# EAGLE library part STPM34 (library stpm34)
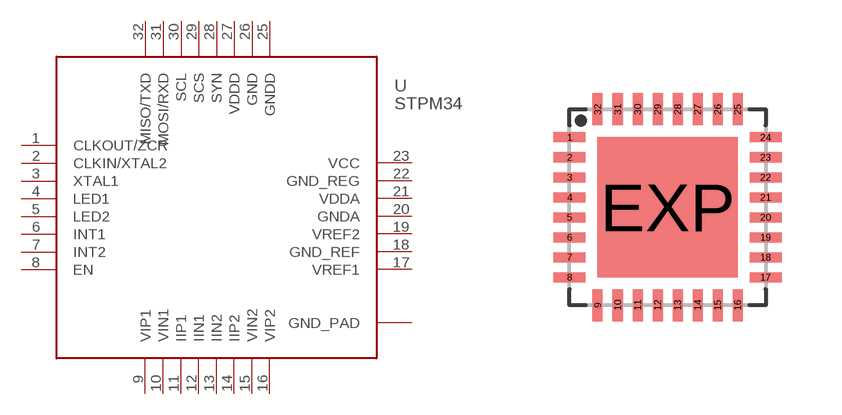
[diagram p0: symbol with the pads of QFN32; footprint QFN32]

Designator prefix -

## STPM34  [QFN32]
1  CLKOUT/ZCR
2  CLKIN/XTAL2
3  XTAL1
4  LED1
5  LED2
6  INT1
7  INT2
8  EN
9  VIP1
10  VIN1
11  IIP1
12  IIN1
13  IIN2
14  IIP2
15  VIN2
16  VIP2
17  VREF1  pwr
18  GND_REF  pwr
19  VREF2  pwr
20  GNDA  pwr
21  VDDA  pwr
22  GND_REG  pwr
23  VCC  pwr
25  GNDD  pwr
26  GND  pwr
27  VDDD  pwr
28  SYN
29  SCS
30  SCL
31  MOSI/RXD
32  MISO/TXD
EXP  GND_PAD  pwr

## Footprint QFN32 (pad centres in mm)
QFN 32 5 x 5 mm Source: www.qprox.com ... QT1106_-8IR0.07-16262.pdf
smd 0.8 x 0.25: 1 -2.45,1.75; 2 -2.45,1.25; 3 -2.45,0.75; 4 -2.45,0.25; 5 -2.45,-0.25; 6 -2.45,-0.75; 7 -2.45,-1.25; 8 -2.45,-1.75; 17 2.45,-1.75; 18 2.45,-1.25; 19 2.45,-0.75; 20 2.45,-0.25; 21 2.45,0.25; 22 2.45,0.75; 23 2.45,1.25; 24 2.45,1.75
smd 0.25 x 0.8: 9 -1.75,-2.45; 10 -1.25,-2.45; 11 -0.75,-2.45; 12 -0.25,-2.45; 13 0.25,-2.45; 14 0.75,-2.45; 15 1.25,-2.45; 16 1.75,-2.45; 25 1.75,2.45; 26 1.25,2.45; 27 0.75,2.45; 28 0.25,2.45; 29 -0.25,2.45; 30 -0.75,2.45; 31 -1.25,2.45; 32 -1.75,2.45
smd 3.5 x 3.5: EXP 0,0